# EAGLE library part 40POS-*MM-? (library con-wurth-board-header)
Wurth Elektronik WR-BHD Male Box Headers
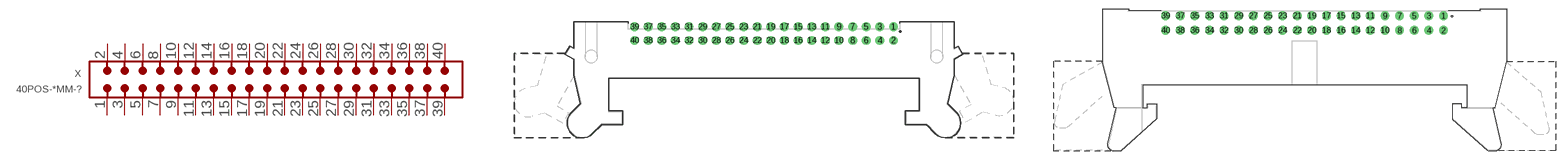
[diagram p11: symbol with the pads of 62504022121; footprints 62504022121, 61204022121]

Designator prefix X

## 40POS-2.00MM-62504022121 (CONTACT-RESISTANCE: 20mOhm; DATASHEET-URL: https://www.we-online.com/redexpert/spec/62504022121?ae; GENDER: Male; IR: 2A; LENGTH: 55.7mm; MOUNT: THT; PACKAGING: Tray; PART-NUMBER: 62504022121; PINS: 40; PITCH: 2.00 mm; TYPE: Angled; VALUE: 62504022121; WORKING-VOLTAGE: 250V(AC))  [62504022121]
1  1  pas
2  2  pas
3  3  pas
4  4  pas
5  5  pas
6  6  pas
7  7  pas
8  8  pas
9  9  pas
10  10  pas
11  11  pas
12  12  pas
13  13  pas
14  14  pas
15  15  pas
16  16  pas
17  17  pas
18  18  pas
19  19  pas
20  20  pas
21  21  pas
22  22  pas
23  23  pas
24  24  pas
25  25  pas
26  26  pas
27  27  pas
28  28  pas
29  29  pas
30  30  pas
31  31  pas
32  32  pas
33  33  pas
34  34  pas
35  35  pas
36  36  pas
37  37  pas
38  38  pas
39  39  pas
40  40  pas

## 40POS-2.54MM-61204022121 (CONTACT-RESISTANCE: 20mOhm; DATASHEET-URL: https://www.we-online.com/redexpert/spec/61204022121?ae; GENDER: Male; IR: 3A; LENGTH: 70.3mm; MOUNT: THT; PACKAGING: Tray; PART-NUMBER: 61204022121; PINS: 40; PITCH: 2.54 mm; TYPE: Angled; VALUE: 61204022121; WORKING-VOLTAGE: 250V(AC))  [61204022121]
Pads as for 62504022121

## 40POS-2.54MM-61204022821 (CONTACT-RESISTANCE: 20mOhm; DATASHEET-URL: https://www.we-online.com/redexpert/spec/61204022821?ae; GENDER: Male; IR: 3A; LENGTH: 70.3mm; MOUNT: THT; PACKAGING: Tray; PART-NUMBER: 61204022821; PINS: 40; PITCH: 2.54 mm; TYPE: Straight; VALUE: 61204022821; WORKING-VOLTAGE: 250V(AC))  [61204022821]
Pads as for 62504022121

## 40POS-2.00MM-62504021721 (CONTACT-RESISTANCE: 20mOhm; DATASHEET-URL: https://www.we-online.com/redexpert/spec/62504021721?ae; GENDER: Male; IR: 2A; LENGTH: 47.25mm; MOUNT: THT; PACKAGING: Tray; PART-NUMBER: 62504021721; PINS: 40; PITCH: 2.00 mm; TYPE: Angled; VALUE: 62504021721; WORKING-VOLTAGE: 250V(AC))  [62504021721]
Pads as for 62504022121

## 40POS-2.54MM-61204021621 (CONTACT-RESISTANCE: 20mOhm; DATASHEET-URL: https://www.we-online.com/redexpert/spec/61204021621?ae; GENDER: Male; IR: 3A; LENGTH: 58.46mm; MOUNT: THT; PACKAGING: Tray; PART-NUMBER: 61204021621; PINS: 40; PITCH: 2.54 mm; TYPE: Straight; VALUE: 61204021621; WORKING-VOLTAGE: 250V(AC))  [61204021621]
Pads as for 62504022121

## 40POS-2.00MM-62504021621 (CONTACT-RESISTANCE: 20mOhm; DATASHEET-URL: https://www.we-online.com/redexpert/spec/62504021621?ae; GENDER: Male; IR: 2A; LENGTH: 47.2mm; MOUNT: THT; PACKAGING: Tray; PART-NUMBER: 62504021621; PINS: 40; PITCH: 2.00 mm; TYPE: Straight; VALUE: 62504021621; WORKING-VOLTAGE: 250V(AC))  [62504021621]
Pads as for 62504022121

## 40POS-2.54MM-612040235121 (CONTACT-RESISTANCE: 20mOhm; DATASHEET-URL: https://www.we-online.com/redexpert/spec/612040235121?ae; GENDER: Male; IR: 3A; LENGTH: 58.4mm; MOUNT: THT; PACKAGING: Tray; PART-NUMBER: 612040235121; PINS: 40; PITCH: 2.54 mm; TYPE: Straight; VALUE: 612040235121; WORKING-VOLTAGE: 250V(AC))  [612040235121]
Pads as for 62504022121

## 40POS-2.54MM-61204022021 (CONTACT-RESISTANCE: 20mOhm; DATASHEET-URL: https://www.we-online.com/redexpert/spec/61204022021?ae; GENDER: Male; IR: 3A; LENGTH: 70.3mm; MOUNT: THT; PACKAGING: Tray; PART-NUMBER: 61204022021; PINS: 40; PITCH: 2.54 mm; TYPE: Straight; VALUE: 61204022021; WORKING-VOLTAGE: 250V(AC))  [61204022021]
Pads as for 62504022121

## 40POS-1.27MM-62704021621 (CONTACT-RESISTANCE: 20mOhm; DATASHEET-URL: https://www.we-online.com/redexpert/spec/62704021621?ae; GENDER: Male; IR: 1A; LENGTH: 31.75mm; MOUNT: THT; PART-NUMBER: 62704021621; PINS: 40; PITCH: 1.27 mm; TYPE: Straight; VALUE: 62704021621; WORKING-VOLTAGE: 50V(AC))  [62704021621]
Pads as for 62504022121

## 40POS-2.54MM-61204021721 (CONTACT-RESISTANCE: 20mOhm; DATASHEET-URL: https://www.we-online.com/redexpert/spec/61204021721?ae; GENDER: Male; IR: 3A; LENGTH: 58.46mm; MOUNT: THT; PACKAGING: Tray; PART-NUMBER: 61204021721; PINS: 40; PITCH: 2.54 mm; TYPE: Angled; VALUE: 61204021721; WORKING-VOLTAGE: 250V(AC))  [61204021721]
Pads as for 62504022121

## 40POS-2.00MM-62504022021 (CONTACT-RESISTANCE: 20mOhm; DATASHEET-URL: https://www.we-online.com/redexpert/spec/62504022021?ae; GENDER: Male; IR: 2A; LENGTH: 55.7mm; MOUNT: THT; PACKAGING: Tray; PART-NUMBER: 62504022021; PINS: 40; PITCH: 2.00 mm; TYPE: Straight; VALUE: 62504022021; WORKING-VOLTAGE: 250V(AC))  [62504022021]
Pads as for 62504022121

## 40POS-2.54MM-61204020621 (CONTACT-RESISTANCE: 20mOhm; DATASHEET-URL: https://www.we-online.com/redexpert/spec/61204020621?ae; GENDER: Male; IR: 3A; LENGTH: 58.6mm; MOUNT: SMT; PACKAGING: Tube; PART-NUMBER: 61204020621; PINS: 40; PITCH: 2.54 mm; TYPE: Straight; VALUE: 61204020621; WORKING-VOLTAGE: 250V(AC))  [61204020621]
Pads as for 62504022121

## 40POS-2.54MM-61204022323 (CONTACT-RESISTANCE: 20mOhm; DATASHEET-URL: https://www.we-online.com/redexpert/spec/61204022323?ae; GENDER: Transition; IR: 1A; LENGTH: 56.25mm; MOUNT: THT; PACKAGING: Tray; PART-NUMBER: 61204022323; PINS: 40; PITCH: 2.54 mm; TYPE: Straight; VALUE: 61204022323; WORKING-VOLTAGE: 250V(AC))  [61204022323]
Pads as for 62504022121

## 40POS-1.27MM-62704020621 (CONTACT-RESISTANCE: 20mOhm; DATASHEET-URL: https://www.we-online.com/redexpert/spec/62704020621?ae; GENDER: Male; IR: 1A; LENGTH: 31.75mm; MOUNT: SMT; PART-NUMBER: 62704020621; PINS: 40; PITCH: 1.27 mm; TYPE: Straight; VALUE: 62704020621; WORKING-VOLTAGE: 50V(AC))  [62704020621]
Pads as for 62504022121

## 40POS-1.27MM-62704021721 (CONTACT-RESISTANCE: 20mOhm; DATASHEET-URL: https://www.we-online.com/redexpert/spec/62704021721?ae; GENDER: Male; IR: 1A; LENGTH: 31.75mm; MOUNT: THT; PART-NUMBER: 62704021721; PINS: 40; PITCH: 1.27 mm; TYPE: Angled; VALUE: 62704021721; WORKING-VOLTAGE: 50V(AC))  [62704021721]
Pads as for 62504022121

## 40POS-2.54MM-612040235221 (CONTACT-RESISTANCE: 20mOhm; DATASHEET-URL: https://www.we-online.com/redexpert/spec/612040235221?ae; GENDER: Male; IR: 3A; LENGTH: 58.4mm; MOUNT: THT; PACKAGING: Tray; PART-NUMBER: 612040235221; PINS: 40; PITCH: 2.54 mm; TYPE: Angled; VALUE: 612040235221; WORKING-VOLTAGE: 250V(AC))  [612040235221]
Pads as for 62504022121

## 40POS-2.54MM-61204022921 (CONTACT-RESISTANCE: 20mOhm; DATASHEET-URL: https://www.we-online.com/redexpert/spec/61204022921?ae; GENDER: Male; IR: 3A; LENGTH: 70.3mm; MOUNT: THT; PACKAGING: Tray; PART-NUMBER: 61204022921; PINS: 40; PITCH: 2.54 mm; TYPE: Angled; VALUE: 61204022921; WORKING-VOLTAGE: 250V(AC))  [61204022921]
Pads as for 62504022121

## 40POS-2.00MM-62504022323 (CONTACT-RESISTANCE: 20mOhm; DATASHEET-URL: https://www.we-online.com/redexpert/spec/62504022323?ae; GENDER: Transition; IR: 1A; LENGTH: 44.1mm; MOUNT: THT; PACKAGING: Tray; PART-NUMBER: 62504022323; PINS: 40; PITCH: 2.00 mm; TYPE: Straight; VALUE: 62504022323; WORKING-VOLTAGE: 250V(AC))  [62504022323]
Pads as for 62504022121

## 40POS-2.00MM-62534020621 (CONTACT-RESISTANCE: 20mOhm; DATASHEET-URL: https://www.we-online.com/redexpert/spec/62534020621?ae; GENDER: Male; IR: 2A; LENGTH: 47.25mm; MOUNT: SMT; PACKAGING: Tape and Reel with Cap; PART-NUMBER: 62534020621; PINS: 40; PITCH: 2mm; TYPE: Straight; VALUE: 62534020621; WORKING-VOLTAGE: 250V(AC))  [62534020621]
Pads as for 62504022121

## 40POS-1.27MM-62734020621 (CONTACT-RESISTANCE: 20mOhm; DATASHEET-URL: https://www.we-online.com/redexpert/spec/62734020621?ae; GENDER: Male; IR: 1A; LENGTH: 31.75mm; MOUNT: SMT; PART-NUMBER: 62734020621; PINS: 40; PITCH: 1.27 mm; TYPE: Straight; VALUE: 62734020621; WORKING-VOLTAGE: 50V(AC))  [62734020621]
Pads as for 62504022121

## 40POS-2.54MM-61234020621 (CONTACT-RESISTANCE: 20mOhm; DATASHEET-URL: https://www.we-online.com/redexpert/spec/61234020621?ae; GENDER: Male; IR: 3A; LENGTH: 58.42mm; MOUNT: SMT; PACKAGING: Tape and Reel with Cap; PART-NUMBER: 61234020621; PINS: 40; PITCH: 2.54 mm; TYPE: Straight; VALUE: 61234020621; WORKING-VOLTAGE: 250V(AC))  [61234020621]
Pads as for 62504022121

## Footprint 62504022121 (pad centres in mm)
WR-BHD 2.00 mm Male Angled Box Header w. Lever,40 Pins
drill 0.8: 1 19,3.4; 2 19,1.4; 3 17,3.4; 4 17,1.4; 5 15,3.4; 6 15,1.4; 7 13,3.4; 8 13,1.4; 9 11,3.4; 10 11,1.4; 11 9,3.4; 12 9,1.4; 13 7,3.4; 14 7,1.4; 15 5,3.4; 16 5,1.4; 17 3,3.4; 18 3,1.4; 19 1,3.4; 20 1,1.4; 21 -1,3.4; 22 -1,1.4; 23 -3,3.4; 24 -3,1.4; 25 -5,3.4; 26 -5,1.4; 27 -7,3.4; 28 -7,1.4; 29 -9,3.4; 30 -9,1.4; 31 -11,3.4; 32 -11,1.4; 33 -13,3.4; 34 -13,1.4; 35 -15,3.4; 36 -15,1.4; 37 -17,3.4; 38 -17,1.4; 39 -19,3.4; 40 -19,1.4

## Footprint 61204022121 (pad centres in mm)
WR-BHD 2.54 mm Male Angled Box Header with short lever,40 Pins
drill 1.02: 1 24.13,7.36; 2 24.13,4.82; 3 21.59,7.36; 4 21.59,4.82; 5 19.05,7.36; 6 19.05,4.82; 7 16.51,7.36; 8 16.51,4.82; 9 13.97,7.36; 10 13.97,4.82; 11 11.43,7.36; 12 11.43,4.82; 13 8.89,7.36; 14 8.89,4.82; 15 6.35,7.36; 16 6.35,4.82; 17 3.81,7.36; 18 3.81,4.82; 19 1.27,7.36; 20 1.27,4.82; 21 -1.27,7.36; 22 -1.27,4.82; 23 -3.81,7.36; 24 -3.81,4.82; 25 -6.35,7.36; 26 -6.35,4.82; 27 -8.89,7.36; 28 -8.89,4.82; 29 -11.43,7.36; 30 -11.43,4.82; 31 -13.97,7.36; 32 -13.97,4.82; 33 -16.51,7.36; 34 -16.51,4.82; 35 -19.05,7.36; 36 -19.05,4.82; 37 -21.59,7.36; 38 -21.59,4.82; 39 -24.13,7.36; 40 -24.13,4.82

## Footprint 61204022821 (pad centres in mm)
WR-BHD 2.54 mm Male Box Header with long lever,40 Pins
drill 1.02: 1 -24.13,-1.27; 2 -24.13,1.27; 3 -21.59,-1.27; 4 -21.59,1.27; 5 -19.05,-1.27; 6 -19.05,1.27; 7 -16.51,-1.27; 8 -16.51,1.27; 9 -13.97,-1.27; 10 -13.97,1.27; 11 -11.43,-1.27; 12 -11.43,1.27; 13 -8.89,-1.27; 14 -8.89,1.27; 15 -6.35,-1.27; 16 -6.35,1.27; 17 -3.81,-1.27; 18 -3.81,1.27; 19 -1.27,-1.27; 20 -1.27,1.27; 21 1.27,-1.27; 22 1.27,1.27; 23 3.81,-1.27; 24 3.81,1.27; 25 6.35,-1.27; 26 6.35,1.27; 27 8.89,-1.27; 28 8.89,1.27; 29 11.43,-1.27; 30 11.43,1.27; 31 13.97,-1.27; 32 13.97,1.27; 33 16.51,-1.27; 34 16.51,1.27; 35 19.05,-1.27; 36 19.05,1.27; 37 21.59,-1.27; 38 21.59,1.27; 39 24.13,-1.27; 40 24.13,1.27

## Footprint 62504021721 (pad centres in mm)
WR-BHD 2.00 mm Male Angled Box Header,40 pins
drill 0.8: 1 19,5.55; 2 19,3.55; 3 17,5.55; 4 17,3.55; 5 15,5.55; 6 15,3.55; 7 13,5.55; 8 13,3.55; 9 11,5.55; 10 11,3.55; 11 9,5.55; 12 9,3.55; 13 7,5.55; 14 7,3.55; 15 5,5.55; 16 5,3.55; 17 3,5.55; 18 3,3.55; 19 1,5.55; 20 1,3.55; 21 -1,5.55; 22 -1,3.55; 23 -3,5.55; 24 -3,3.55; 25 -5,5.55; 26 -5,3.55; 27 -7,5.55; 28 -7,3.55; 29 -9,5.55; 30 -9,3.55; 31 -11,5.55; 32 -11,3.55; 33 -13,5.55; 34 -13,3.55; 35 -15,5.55; 36 -15,3.55; 37 -17,5.55; 38 -17,3.55; 39 -19,5.55; 40 -19,3.55

## Footprint 61204021621 (pad centres in mm)
WR-BHD 2.54 mm Male Box Header, 40 Pins
drill 1.1: 1 -24.13,-1.27; 2 -24.13,1.27; 3 -21.59,-1.27; 4 -21.59,1.27; 5 -19.05,-1.27; 6 -19.05,1.27; 7 -16.51,-1.27; 8 -16.51,1.27; 9 -13.97,-1.27; 10 -13.97,1.27; 11 -11.43,-1.27; 12 -11.43,1.27; 13 -8.89,-1.27; 14 -8.89,1.27; 15 -6.35,-1.27; 16 -6.35,1.27; 17 -3.81,-1.27; 18 -3.81,1.27; 19 -1.27,-1.27; 20 -1.27,1.27; 21 1.27,-1.27; 22 1.27,1.27; 23 3.81,-1.27; 24 3.81,1.27; 25 6.35,-1.27; 26 6.35,1.27; 27 8.89,-1.27; 28 8.89,1.27; 29 11.43,-1.27; 30 11.43,1.27; 31 13.97,-1.27; 32 13.97,1.27; 33 16.51,-1.27; 34 16.51,1.27; 35 19.05,-1.27; 36 19.05,1.27; 37 21.59,-1.27; 38 21.59,1.27; 39 24.13,-1.27; 40 24.13,1.27

## Footprint 62504021621 (pad centres in mm)
WR-BHD 2.00 mm Male Box Headerr, 40 pins
drill 0.8: 1 -19,-1; 2 -19,1; 3 -17,-1; 4 -17,1; 5 -15,-1; 6 -15,1; 7 -13,-1; 8 -13,1; 9 -11,-1; 10 -11,1; 11 -9,-1; 12 -9,1; 13 -7,-1; 14 -7,1; 15 -5,-1; 16 -5,1; 17 -3,-1; 18 -3,1; 19 -1,-1; 20 -1,1; 21 1,-1; 22 1,1; 23 3,-1; 24 3,1; 25 5,-1; 26 5,1; 27 7,-1; 28 7,1; 29 9,-1; 30 9,1; 31 11,-1; 32 11,1; 33 13,-1; 34 13,1; 35 15,-1; 36 15,1; 37 17,-1; 38 17,1; 39 19,-1; 40 19,1

## Footprint 612040235121 (pad centres in mm)
WR-BHD 2.54 mm Male Box Header High Temperature, 40 Pins
drill 1.02: 1 -24.13,-1.27; 2 -24.13,1.27; 3 -21.59,-1.27; 4 -21.59,1.27; 5 -19.05,-1.27; 6 -19.05,1.27; 7 -16.51,-1.27; 8 -16.51,1.27; 9 -13.97,-1.27; 10 -13.97,1.27; 11 -11.43,-1.27; 12 -11.43,1.27; 13 -8.89,-1.27; 14 -8.89,1.27; 15 -6.35,-1.27; 16 -6.35,1.27; 17 -3.81,-1.27; 18 -3.81,1.27; 19 -1.27,-1.27; 20 -1.27,1.27; 21 1.27,-1.27; 22 1.27,1.27; 23 3.81,-1.27; 24 3.81,1.27; 25 6.35,-1.27; 26 6.35,1.27; 27 8.89,-1.27; 28 8.89,1.27; 29 11.43,-1.27; 30 11.43,1.27; 31 13.97,-1.27; 32 13.97,1.27; 33 16.51,-1.27; 34 16.51,1.27; 35 19.05,-1.27; 36 19.05,1.27; 37 21.59,-1.27; 38 21.59,1.27; 39 24.13,-1.27; 40 24.13,1.27

## Footprint 61204022021 (pad centres in mm)
WR-BHD 2.54 mm Male Box Header with short lever, 40 Pins
drill 1.02: 1 -24.13,-1.27; 2 -24.13,1.27; 3 -21.59,-1.27; 4 -21.59,1.27; 5 -19.05,-1.27; 6 -19.05,1.27; 7 -16.51,-1.27; 8 -16.51,1.27; 9 -13.97,-1.27; 10 -13.97,1.27; 11 -11.43,-1.27; 12 -11.43,1.27; 13 -8.89,-1.27; 14 -8.89,1.27; 15 -6.35,-1.27; 16 -6.35,1.27; 17 -3.81,-1.27; 18 -3.81,1.27; 19 -1.27,-1.27; 20 -1.27,1.27; 21 1.27,-1.27; 22 1.27,1.27; 23 3.81,-1.27; 24 3.81,1.27; 25 6.35,-1.27; 26 6.35,1.27; 27 8.89,-1.27; 28 8.89,1.27; 29 11.43,-1.27; 30 11.43,1.27; 31 13.97,-1.27; 32 13.97,1.27; 33 16.51,-1.27; 34 16.51,1.27; 35 19.05,-1.27; 36 19.05,1.27; 37 21.59,-1.27; 38 21.59,1.27; 39 24.13,-1.27; 40 24.13,1.27

## Footprint 62704021621 (pad centres in mm)
WR-BHD 1.27mm Male THT Box Header Straight, 40Pins
drill 0.7 pad 1.05: 1 -12.065,-0.635; 2 -12.065,0.635; 3 -10.795,-0.635; 4 -10.795,0.635; 5 -9.525,-0.635; 6 -9.525,0.635; 7 -8.255,-0.635; 8 -8.255,0.635; 9 -6.985,-0.635; 10 -6.985,0.635; 11 -5.715,-0.635; 12 -5.715,0.635; 13 -4.445,-0.635; 14 -4.445,0.635; 15 -3.175,-0.635; 16 -3.175,0.635; 17 -1.905,-0.635; 18 -1.905,0.635; 19 -0.635,-0.635; 20 -0.635,0.635; 21 0.635,-0.635; 22 0.635,0.635; 23 1.905,-0.635; 24 1.905,0.635; 25 3.175,-0.635; 26 3.175,0.635; 27 4.445,-0.635; 28 4.445,0.635; 29 5.715,-0.635; 30 5.715,0.635; 31 6.985,-0.635; 32 6.985,0.635; 33 8.255,-0.635; 34 8.255,0.635; 35 9.525,-0.635; 36 9.525,0.635; 37 10.795,-0.635; 38 10.795,0.635; 39 12.065,-0.635; 40 12.065,0.635

## Footprint 61204021721 (pad centres in mm)
WR-BHD 2.54 mm Male Angled Box Header, 40 Pins
drill 1.1: 1 24.13,8.805; 2 24.13,6.265; 3 21.59,8.805; 4 21.59,6.265; 5 19.05,8.805; 6 19.05,6.265; 7 16.51,8.805; 8 16.51,6.265; 9 13.97,8.805; 10 13.97,6.265; 11 11.43,8.805; 12 11.43,6.265; 13 8.89,8.805; 14 8.89,6.265; 15 6.35,8.805; 16 6.35,6.265; 17 3.81,8.805; 18 3.81,6.265; 19 1.27,8.805; 20 1.27,6.265; 21 -1.27,8.805; 22 -1.27,6.265; 23 -3.81,8.805; 24 -3.81,6.265; 25 -6.35,8.805; 26 -6.35,6.265; 27 -8.89,8.805; 28 -8.89,6.265; 29 -11.43,8.805; 30 -11.43,6.265; 31 -13.97,8.805; 32 -13.97,6.265; 33 -16.51,8.805; 34 -16.51,6.265; 35 -19.05,8.805; 36 -19.05,6.265; 37 -21.59,8.805; 38 -21.59,6.265; 39 -24.13,8.805; 40 -24.13,6.265

## Footprint 62504022021 (pad centres in mm)
WR-BHD 2.00 mm Male Box Header with Lever,40 pins
drill 0.8: 1 -19,-1; 2 -19,1; 3 -17,-1; 4 -17,1; 5 -15,-1; 6 -15,1; 7 -13,-1; 8 -13,1; 9 -11,-1; 10 -11,1; 11 -9,-1; 12 -9,1; 13 -7,-1; 14 -7,1; 15 -5,-1; 16 -5,1; 17 -3,-1; 18 -3,1; 19 -1,-1; 20 -1,1; 21 1,-1; 22 1,1; 23 3,-1; 24 3,1; 25 5,-1; 26 5,1; 27 7,-1; 28 7,1; 29 9,-1; 30 9,1; 31 11,-1; 32 11,1; 33 13,-1; 34 13,1; 35 15,-1; 36 15,1; 37 17,-1; 38 17,1; 39 19,-1; 40 19,1

## Footprint 61204020621 (pad centres in mm)
WR-BHD 2.54 mm Male SMT Box Header, 40 pins
smd 1 x 3.75: 1 -24.13,-3.375; 2 -24.13,3.375; 3 -21.59,-3.375; 4 -21.59,3.375; 5 -19.05,-3.375; 6 -19.05,3.375; 7 -16.51,-3.375; 8 -16.51,3.375; 9 -13.97,-3.375; 10 -13.97,3.375; 11 -11.43,-3.375; 12 -11.43,3.375; 13 -8.89,-3.375; 14 -8.89,3.375; 15 -6.35,-3.375; 16 -6.35,3.375; 17 -3.81,-3.375; 18 -3.81,3.375; 19 -1.27,-3.375; 20 -1.27,3.375; 21 1.27,-3.375; 22 1.27,3.375; 23 3.81,-3.375; 24 3.81,3.375; 25 6.35,-3.375; 26 6.35,3.375; 27 8.89,-3.375; 28 8.89,3.375; 29 11.43,-3.375; 30 11.43,3.375; 31 13.97,-3.375; 32 13.97,3.375; 33 16.51,-3.375; 34 16.51,3.375; 35 19.05,-3.375; 36 19.05,3.375; 37 21.59,-3.375; 38 21.59,3.375; 39 24.13,-3.375; 40 24.13,3.375

## Footprint 61204022323 (pad centres in mm)
WR-BHD 2.54mm Board to Cable Transition Connector, 40 Pins
drill 1.02: 1 -24.13,-1.27; 2 -24.13,1.27; 3 -21.59,-1.27; 4 -21.59,1.27; 5 -19.05,-1.27; 6 -19.05,1.27; 7 -16.51,-1.27; 8 -16.51,1.27; 9 -13.97,-1.27; 10 -13.97,1.27; 11 -11.43,-1.27; 12 -11.43,1.27; 13 -8.89,-1.27; 14 -8.89,1.27; 15 -6.35,-1.27; 16 -6.35,1.27; 17 -3.81,-1.27; 18 -3.81,1.27; 19 -1.27,-1.27; 20 -1.27,1.27; 21 1.27,-1.27; 22 1.27,1.27; 23 3.81,-1.27; 24 3.81,1.27; 25 6.35,-1.27; 26 6.35,1.27; 27 8.89,-1.27; 28 8.89,1.27; 29 11.43,-1.27; 30 11.43,1.27; 31 13.97,-1.27; 32 13.97,1.27; 33 16.51,-1.27; 34 16.51,1.27; 35 19.05,-1.27; 36 19.05,1.27; 37 21.59,-1.27; 38 21.59,1.27; 39 24.13,-1.27; 40 24.13,1.27

## Footprint 62704020621 (pad centres in mm)
WR-BHD 1.27 mm Male SMT Box Header Pitch: 1.27mm, 40pins, SMT
smd 0.65 x 2.76: 1 -12.065,-2.02; 2 -12.065,2.02; 3 -10.795,-2.02; 4 -10.795,2.02; 5 -9.525,-2.02; 6 -9.525,2.02; 7 -8.255,-2.02; 8 -8.255,2.02; 9 -6.985,-2.02; 10 -6.985,2.02; 11 -5.715,-2.02; 12 -5.715,2.02; 13 -4.445,-2.02; 14 -4.445,2.02; 15 -3.175,-2.02; 16 -3.175,2.02; 17 -1.905,-2.02; 18 -1.905,2.02; 19 -0.635,-2.02; 20 -0.635,2.02; 21 0.635,-2.02; 22 0.635,2.02; 23 1.905,-2.02; 24 1.905,2.02; 25 3.175,-2.02; 26 3.175,2.02; 27 4.445,-2.02; 28 4.445,2.02; 29 5.715,-2.02; 30 5.715,2.02; 31 6.985,-2.02; 32 6.985,2.02; 33 8.255,-2.02; 34 8.255,2.02; 35 9.525,-2.02; 36 9.525,2.02; 37 10.795,-2.02; 38 10.795,2.02; 39 12.065,-2.02; 40 12.065,2.02

## Footprint 62704021721 (pad centres in mm)
WR-BHD 1,27mm Male THT Box Header Right angle, 40Pins
drill 0.7 pad 1.05: 1 12.065,4.72; 2 12.065,3.45; 3 10.795,4.72; 4 10.795,3.45; 5 9.525,4.72; 6 9.525,3.45; 7 8.255,4.72; 8 8.255,3.45; 9 6.985,4.72; 10 6.985,3.45; 11 5.715,4.72; 12 5.715,3.45; 13 4.445,4.72; 14 4.445,3.45; 15 3.175,4.72; 16 3.175,3.45; 17 1.905,4.72; 18 1.905,3.45; 19 0.635,4.72; 20 0.635,3.45; 21 -0.635,4.72; 22 -0.635,3.45; 23 -1.905,4.72; 24 -1.905,3.45; 25 -3.175,4.72; 26 -3.175,3.45; 27 -4.445,4.72; 28 -4.445,3.45; 29 -5.715,4.72; 30 -5.715,3.45; 31 -6.985,4.72; 32 -6.985,3.45; 33 -8.255,4.72; 34 -8.255,3.45; 35 -9.525,4.72; 36 -9.525,3.45; 37 -10.795,4.72; 38 -10.795,3.45; 39 -12.065,4.72; 40 -12.065,3.45

## Footprint 612040235221 (pad centres in mm)
WR-BHD 2.54 mm Male Angled Box Header High Temperature,40 Pins
drill 1.02: 1 24.13,8.54; 2 24.13,6; 3 21.59,8.54; 4 21.59,6; 5 19.05,8.54; 6 19.05,6; 7 16.51,8.54; 8 16.51,6; 9 13.97,8.54; 10 13.97,6; 11 11.43,8.54; 12 11.43,6; 13 8.89,8.54; 14 8.89,6; 15 6.35,8.54; 16 6.35,6; 17 3.81,8.54; 18 3.81,6; 19 1.27,8.54; 20 1.27,6; 21 -1.27,8.54; 22 -1.27,6; 23 -3.81,8.54; 24 -3.81,6; 25 -6.35,8.54; 26 -6.35,6; 27 -8.89,8.54; 28 -8.89,6; 29 -11.43,8.54; 30 -11.43,6; 31 -13.97,8.54; 32 -13.97,6; 33 -16.51,8.54; 34 -16.51,6; 35 -19.05,8.54; 36 -19.05,6; 37 -21.59,8.54; 38 -21.59,6; 39 -24.13,8.54; 40 -24.13,6

## Footprint 61204022921 (pad centres in mm)
WR-BHD 2.54 mm Male Angled Box Header with long lever, 40 Pins
drill 1.02: 1 24.13,7.36; 2 24.13,4.82; 3 21.59,7.36; 4 21.59,4.82; 5 19.05,7.36; 6 19.05,4.82; 7 16.51,7.36; 8 16.51,4.82; 9 13.97,7.36; 10 13.97,4.82; 11 11.43,7.36; 12 11.43,4.82; 13 8.89,7.36; 14 8.89,4.82; 15 6.35,7.36; 16 6.35,4.82; 17 3.81,7.36; 18 3.81,4.82; 19 1.27,7.36; 20 1.27,4.82; 21 -1.27,7.36; 22 -1.27,4.82; 23 -3.81,7.36; 24 -3.81,4.82; 25 -6.35,7.36; 26 -6.35,4.82; 27 -8.89,7.36; 28 -8.89,4.82; 29 -11.43,7.36; 30 -11.43,4.82; 31 -13.97,7.36; 32 -13.97,4.82; 33 -16.51,7.36; 34 -16.51,4.82; 35 -19.05,7.36; 36 -19.05,4.82; 37 -21.59,7.36; 38 -21.59,4.82; 39 -24.13,7.36; 40 -24.13,4.82

## Footprint 62504022323 (pad centres in mm)
WR-BHD 2.00 mm Board to Cable Transition Connector,40 pins
drill 1: 1 -19,-1; 2 -19,1; 3 -17,-1; 4 -17,1; 5 -15,-1; 6 -15,1; 7 -13,-1; 8 -13,1; 9 -11,-1; 10 -11,1; 11 -9,-1; 12 -9,1; 13 -7,-1; 14 -7,1; 15 -5,-1; 16 -5,1; 17 -3,-1; 18 -3,1; 19 -1,-1; 20 -1,1; 21 1,-1; 22 1,1; 23 3,-1; 24 3,1; 25 5,-1; 26 5,1; 27 7,-1; 28 7,1; 29 9,-1; 30 9,1; 31 11,-1; 32 11,1; 33 13,-1; 34 13,1; 35 15,-1; 36 15,1; 37 17,-1; 38 17,1; 39 19,-1; 40 19,1

## Footprint 62534020621 (pad centres in mm)
WR-BHD 2.00 mm Male SMT Box Header,40 pins
smd 1 x 2.85: 1 -19,-2.425; 2 -19,2.425; 3 -17,-2.425; 4 -17,2.425; 5 -15,-2.425; 6 -15,2.425; 7 -13,-2.425; 8 -13,2.425; 9 -11,-2.425; 10 -11,2.425; 11 -9,-2.425; 12 -9,2.425; 13 -7,-2.425; 14 -7,2.425; 15 -5,-2.425; 16 -5,2.425; 17 -3,-2.425; 18 -3,2.425; 19 -1,-2.425; 20 -1,2.425; 21 1,-2.425; 22 1,2.425; 23 3,-2.425; 24 3,2.425; 25 5,-2.425; 26 5,2.425; 27 7,-2.425; 28 7,2.425; 29 9,-2.425; 30 9,2.425; 31 11,-2.425; 32 11,2.425; 33 13,-2.425; 34 13,2.425; 35 15,-2.425; 36 15,2.425; 37 17,-2.425; 38 17,2.425; 39 19,-2.425; 40 19,2.425

## Footprint 62734020621 (pad centres in mm)
WR-BHD 1.27 mm Male SMT Box Header Pitch: 1.27mm, 40pins, SMT
smd 0.65 x 2.76: 1 -12.065,-2.02; 2 -12.065,2.02; 3 -10.795,-2.02; 4 -10.795,2.02; 5 -9.525,-2.02; 6 -9.525,2.02; 7 -8.255,-2.02; 8 -8.255,2.02; 9 -6.985,-2.02; 10 -6.985,2.02; 11 -5.715,-2.02; 12 -5.715,2.02; 13 -4.445,-2.02; 14 -4.445,2.02; 15 -3.175,-2.02; 16 -3.175,2.02; 17 -1.905,-2.02; 18 -1.905,2.02; 19 -0.635,-2.02; 20 -0.635,2.02; 21 0.635,-2.02; 22 0.635,2.02; 23 1.905,-2.02; 24 1.905,2.02; 25 3.175,-2.02; 26 3.175,2.02; 27 4.445,-2.02; 28 4.445,2.02; 29 5.715,-2.02; 30 5.715,2.02; 31 6.985,-2.02; 32 6.985,2.02; 33 8.255,-2.02; 34 8.255,2.02; 35 9.525,-2.02; 36 9.525,2.02; 37 10.795,-2.02; 38 10.795,2.02; 39 12.065,-2.02; 40 12.065,2.02

## Footprint 61234020621 (pad centres in mm)
WR-BHD 2.54 mm Male SMT Box Header 2.54 mm, SMT, 40Pins
smd 1.2 x 4.75: 1 -24.13,-2.875; 2 -24.13,2.875; 3 -21.59,-2.875; 4 -21.59,2.875; 5 -19.05,-2.875; 6 -19.05,2.875; 7 -16.51,-2.875; 8 -16.51,2.875; 9 -13.97,-2.875; 10 -13.97,2.875; 11 -11.43,-2.875; 12 -11.43,2.875; 13 -8.89,-2.875; 14 -8.89,2.875; 15 -6.35,-2.875; 16 -6.35,2.875; 17 -3.81,-2.875; 18 -3.81,2.875; 19 -1.27,-2.875; 20 -1.27,2.875; 21 1.27,-2.875; 22 1.27,2.875; 23 3.81,-2.875; 24 3.81,2.875; 25 6.35,-2.875; 26 6.35,2.875; 27 8.89,-2.875; 28 8.89,2.875; 29 11.43,-2.875; 30 11.43,2.875; 31 13.97,-2.875; 32 13.97,2.875; 33 16.51,-2.875; 34 16.51,2.875; 35 19.05,-2.875; 36 19.05,2.875; 37 21.59,-2.875; 38 21.59,2.875; 39 24.13,-2.875; 40 24.13,2.875